# Altium schematic symbol library BoschIMU.SchLib: 1 symbol
Pins are listed as number, name and electrical type; pins without a type are passive.

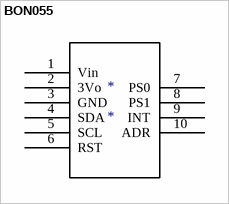
[diagram p0: symbol BON055]

## BON055
designator *
BON055 IMU
footprint BON055 IMU
pins: 1 Vin, 2 3Vo, 3 GND, 4 SDA, 5 SCL, 6 RST, 7 PS0, 8 PS1, 9 INT, 10 ADR